# EAGLE library part PWM_MODULE (library Modules)
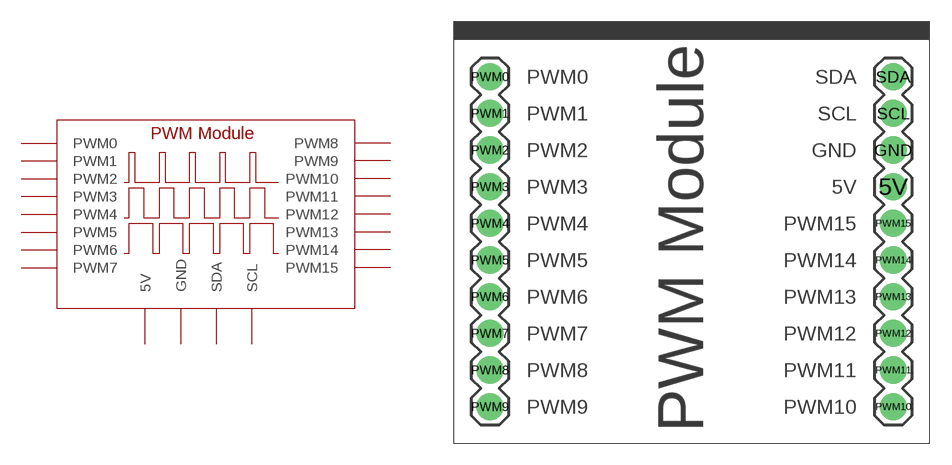
[diagram p0: symbol with the pads of PWM_MODULE; footprint PWM_MODULE]

Designator prefix -

## PWM_MODULE  [PWM_MODULE]
5V  5V  pwr
GND  GND  pwr
PWM0  PWM0  out
PWM1  PWM1  out
PWM2  PWM2  out
PWM3  PWM3  out
PWM4  PWM4  out
PWM5  PWM5  out
PWM6  PWM6  out
PWM7  PWM7  out
PWM8  PWM8  out
PWM9  PWM9  out
PWM10  PWM10  out
PWM11  PWM11  out
PWM12  PWM12  out
PWM13  PWM13  out
PWM14  PWM14  out
PWM15  PWM15  out
SCL  SCL  in
SDA  SDA  in

## Footprint PWM_MODULE (pad centres in mm)
drill 1.016 pad 1.88: 5V 30.48,17.78; GND 30.48,20.32; PWM0 2.54,25.4; PWM1 2.54,22.86; PWM2 2.54,20.32; PWM3 2.54,17.78; PWM4 2.54,15.24; PWM5 2.54,12.7; PWM6 2.54,10.16; PWM7 2.54,7.62; PWM8 2.54,5.08; PWM9 2.54,2.54; PWM10 30.48,2.54; PWM11 30.48,5.08; PWM12 30.48,7.62; PWM13 30.48,10.16; PWM14 30.48,12.7; PWM15 30.48,15.24; SCL 30.48,22.86; SDA 30.48,25.4